# Altium footprint library SOP64P601X175-16N.PcbLib: 1 footprints
Each footprint in its own frame and in the unit in brackets; x right, y up, seen from the top. Pads: shape width x height; smd on the part's side, far side on the other; paste and mask are expansions set on the pad; w line width, h text height; cw(c..) or ccw(c..) is an arc to the next point about the centre after c.
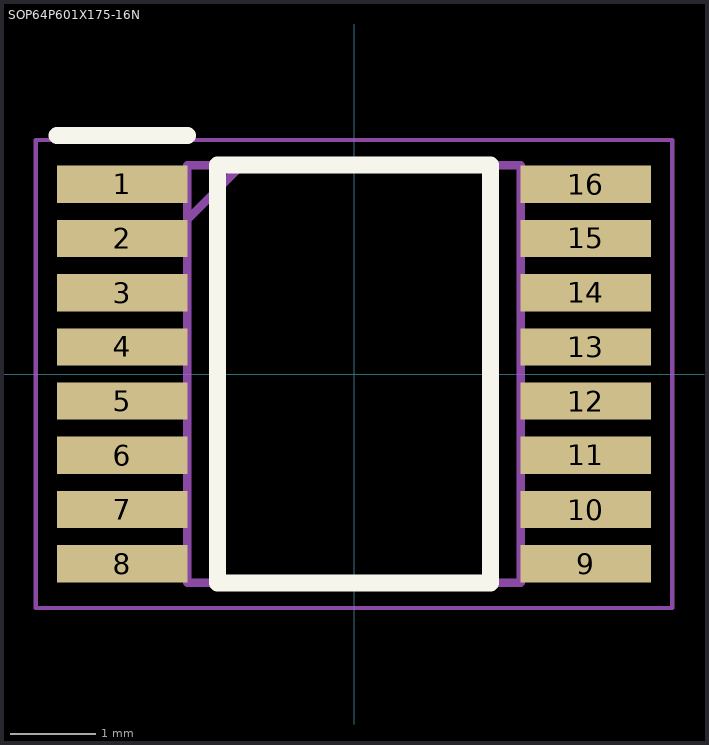
[diagram p0: the footprint, top view; thin cyan lines are the x and y axes]

## SOP64P601X175-16N [mm]
pads (16):
  rect 1.526x0.435 smd: 1(-2.712,2.222) 2(-2.712,1.588) 3(-2.712,0.952) 4(-2.712,0.318) 5(-2.712,-0.318) 6(-2.712,-0.952) 7(-2.712,-1.588) 8(-2.712,-2.222) 9(2.712,-2.222) 10(2.712,-1.588) 11(2.712,-0.952) 12(2.712,-0.318) 13(2.712,0.318) 14(2.712,0.952) 15(2.712,1.588) 16(2.712,2.222)
Top Overlay:
  lines w0.2: -3.475,2.79 -1.95,2.79 ; -1.6,-2.445 1.6,-2.445 1.6,2.445 -1.6,2.445 -1.6,-2.445
Mechanical 15:
  lines w0.1: -1.95,1.81 -1.314,2.445 ; -1.95,-2.445 1.95,-2.445 1.95,2.445 -1.95,2.445 -1.95,-2.445
Mechanical 20:
  lines w0.05: -3.725,-2.739 3.725,-2.739 3.725,2.739 -3.725,2.739 -3.725,-2.739